# EAGLE library part 750315371 (library WE-PP_TRANSFORMER)
Wurth Electronics Push-Pull Transformer 5v-5v 1A 400kHz. Use with SN6505B
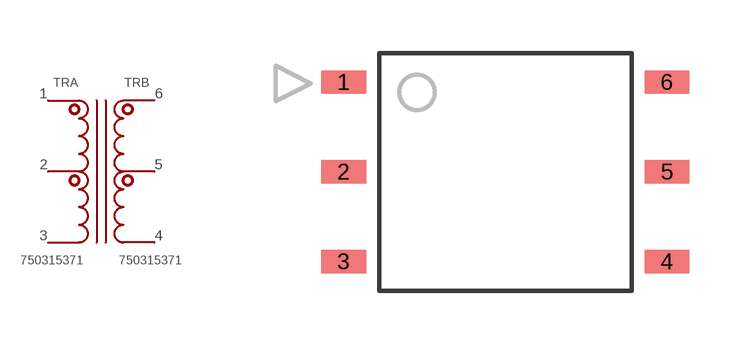
[diagram p0: symbol with the pads of 750315371; footprint 750315371]

Designator prefix TR; gates A=WE-PP-TRANSFORMER-PRI B=WE-PP-TRANSFORMER-SEC

## 750315371 (MARK: 750315371; MF: Würth Elektronik; MPN: 750315371)  [750315371]
1  A:1
2  A:2
3  A:3
4  B:4
5  B:5
6  B:6

## Footprint 750315371 (pad centres in mm)
smd 1.27 x 0.66: 1 -4.57,2.54; 2 -4.57,0; 3 -4.57,-2.54; 4 4.57,-2.54; 5 4.57,0; 6 4.57,2.54